# Altium footprint library SLPX472M050E1P3.PcbLib: 1 footprints
Each footprint in its own frame and in the unit in brackets; x right, y up, seen from the top. Pads: shape width x height; smd on the part's side, far side on the other; paste and mask are expansions set on the pad; w line width, h text height; cw(c..) or ccw(c..) is an arc to the next point about the centre after c.
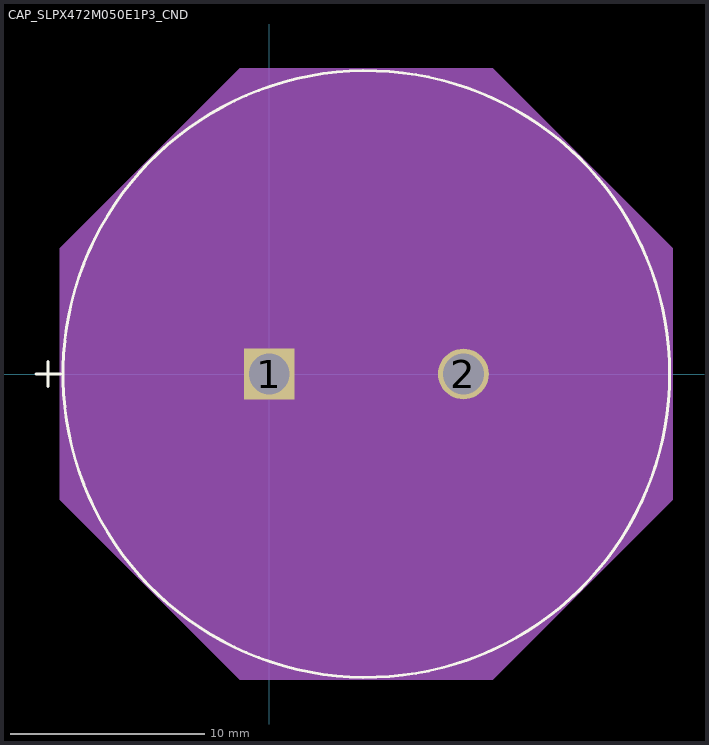
[diagram p0: the footprint, top view; thin cyan lines are the x and y axes]

## CAP_SLPX472M050E1P3_CND [mil]
pads (2):
  rect 103x103 / inner round 60 / far side rect 103x103 hole 83 mask+0: 1(0,0)
  round 103 / inner round 60 / far side round 103 hole 83 mask+0: 2(393.7,0)
Top Overlay:
  circle w6: c196.85,0 r615
  lines w6: -473.15,0 -423.15,0 ; -448.15,-25 -448.15,25
Mechanical 13:
  circle w0: c196.85,0 r610
  lines w1: -473.15,0 -423.15,0 ; -448.15,-25 -448.15,25
Mechanical 15:
  region: -423.15,255.29 -58.44,620 452.14,620 816.85,255.29 816.85,-255.29 452.14,-620 -58.44,-620 -423.15,-255.29
  lines w1: -423.15,-255.29 -58.44,-620 452.14,-620 816.85,-255.29 816.85,255.29 452.14,620 -58.44,620 -423.15,255.29 -423.15,-255.29
3D body "CAP_SLPX472M050E1P3_CND.step": height 1063.62, standoff -319.02, extent -413.15,-609.31 807.77,609.31